# EAGLE library part LTC6244 (library Elecrow_IC)
Dual 50MHz,Low Noise, Rail-to-Rail, CMOS Op Amp http://cds.linear.com/docs/Datasheet/6244fb.pdf
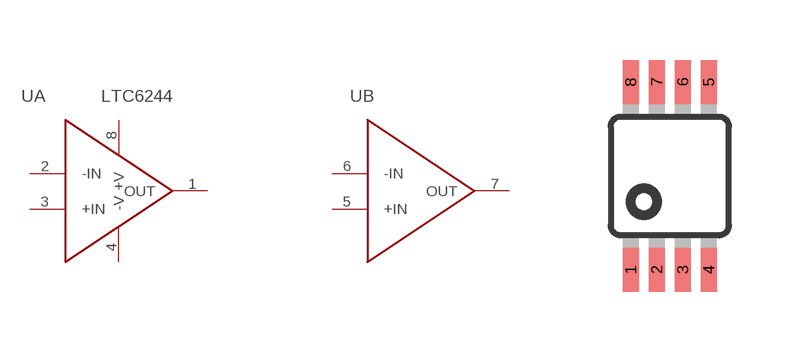
[diagram p20: symbol with the pads of MSOP8; footprint MSOP8]

Designator prefix U; gates A=LTC6244 B=LTC6244_2

## LTC6244-MSOP8  [MSOP8]
1  A:OUT
2  A:-IN
3  A:+IN
4  A:-V
5  B:+IN
6  B:-IN
7  B:OUT
8  A:+V

## Footprint MSOP8 (pad centres in mm)
8M, 8-Lead, 0.118" Wide, Miniature Small Outline Package MSOP 8M-Package doc1097.pdf
smd 0.4 x 1.1: 1 -0.975,-2.35; 2 -0.325,-2.35; 3 0.325,-2.35; 4 0.975,-2.35; 5 0.975,2.35; 6 0.325,2.35; 7 -0.325,2.35; 8 -0.975,2.35